# Altium footprint library belton-engineering.PCBLIB: 2 footprints
Each footprint in its own frame and in the unit in brackets; x right, y up, seen from the top. Pads: shape width x height; smd on the part's side, far side on the other; paste and mask are expansions set on the pad; w line width, h text height; cw(c..) or ccw(c..) is an arc to the next point about the centre after c.
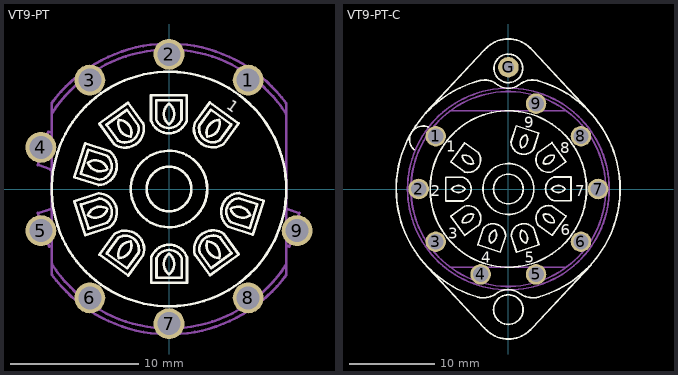
[diagram p0: the footprints below, top view; thin cyan lines are the x and y axes]

## VT9-PT [mm]
pads (9):
  round 2.4 hole 1.8: 1(6.172,8.495) 2(0,10.5) 3(-6.172,8.495) 4(-9.986,3.245) 5(-9.986,-3.245) 6(-6.172,-8.495) 7(0,-10.5) 8(6.172,-8.495) 9(9.986,-3.245)
Top Overlay:
  circle w0.203: c0,0 r9.15
  circle w0.203: c0,0 r1.737
  circle w0.203: c0,0 r2.982
  lines w0.203: -7.399,0.932 -6.542,3.571 -4.639,2.953 cw(c-5.543,1.788) -5.497,0.314 -7.399,0.932 ; -7.391,-0.956 -6.534,-3.595 -4.632,-2.977 ccw(c-5.536,-1.812) -5.489,-0.338 -7.391,-0.956 ; -6.895,1.189 -5.445,0.718 ccw(c-5.544,1.788) -4.834,2.596 -6.285,3.067 -6.895,1.189 ; -6.887,-1.213 -5.437,-0.741 cw(c-5.536,-1.812) -4.827,-2.62 -6.277,-3.091 -6.887,-1.213 ; -6.324,-2.055 ccw(c-5.749,-1.238) -4.803,-1.561 ccw(c-5.378,-2.378) -6.324,-2.055 ; -6.325,2.055 ccw(c-5.379,2.378) -4.803,1.561 ccw(c-5.749,1.238) -6.325,2.055 ; -5.438,5.103 -3.193,6.734 -2.018,5.116 cw(c-3.434,4.705) -4.263,3.485 -5.438,5.103 ; -5.418,-5.118 -3.173,-6.749 -1.997,-5.131 ccw(c-3.413,-4.719) -4.242,-3.5 -5.418,-5.118 ; -4.879,5.015 -3.983,3.781 ccw(c-3.434,4.705) -2.385,4.942 -3.282,6.176 -4.879,5.015 ; -4.859,-5.029 -3.963,-3.796 cw(c-3.414,-4.72) -2.365,-4.956 -3.261,-6.19 -4.859,-5.029 ; -3.909,-5.38 ccw(c-3.923,-4.381) -2.968,-4.086 ccw(c-2.954,-5.085) -3.909,-5.38 ; -3.909,5.38 ccw(c-2.954,5.085) -2.968,4.086 ccw(c-3.923,4.381) -3.909,5.38 ; -1.4,5.325 -1.4,7.325 1.375,7.325 1.375,5.325 cw(c-0.013,5.825) -1.4,5.325 ; -1.375,-7.325 1.4,-7.325 1.4,-5.325 ccw(c0.013,-5.825) -1.375,-5.325 -1.375,-7.325 ; -1,5.4 -1,6.925 0.975,6.925 0.975,5.4 cw(c-0.012,5.825) -1,5.4 ; -0.975,-6.925 -0.975,-5.4 cw(c0.013,-5.825) 1,-5.4 1,-6.925 -0.975,-6.925 ; 0,-6.65 ccw(c-0.599,-5.85) 0,-5.05 ccw(c0.599,-5.85) 0,-6.65 ; 0,5.05 cw(c0.599,5.85) 0,6.65 cw(c-0.599,5.85) 0,5.05 ; 1.997,5.131 3.173,6.749 5.418,5.118 4.242,3.5 cw(c3.413,4.72) 1.997,5.131 ; 2.018,-5.116 3.193,-6.734 5.438,-5.103 4.263,-3.485 ccw(c3.434,-4.705) 2.018,-5.116 ; 2.365,4.956 3.261,6.19 4.859,5.029 3.963,3.796 cw(c3.414,4.72) 2.365,4.956 ; 2.385,-4.942 cw(c3.434,-4.705) 3.983,-3.781 4.879,-5.014 3.281,-6.175 2.385,-4.942 ; 2.968,-4.085 cw(c2.954,-5.085) 3.909,-5.38 cw(c3.923,-4.38) 2.968,-4.085 ; 2.968,4.086 cw(c3.923,4.381) 3.909,5.38 cw(c2.954,5.085) 2.968,4.086 ; 4.639,-2.953 6.541,-3.571 7.399,-0.932 5.497,-0.314 ccw(c5.543,-1.788) 4.639,-2.953 ; 4.803,-1.56 cw(c5.378,-2.378) 6.324,-2.055 cw(c5.749,-1.238) 4.803,-1.56 ; 4.834,-2.596 cw(c5.544,-1.788) 5.444,-0.718 6.895,-1.189 6.284,-3.067 4.834,-2.596
  text "1" at 4.445,6.35 h0.86
Mechanical 16:
  lines w0.203: -9.25,1.525 -10.225,1.875 -9.4,4.475 -9.175,4.4 ; -9.2,-4.425 -9.35,-4.5 -10.225,-1.875 -9.15,-1.525 ; -9.15,-6.675 -9.15,-1.525 ; -9.15,5.875 cw(c-0.013,0.025) 9.125,5.875 ; -9.125,-6.7 ccw(c0.013,-0.012) 9.15,-6.7 9.15,-4.4 ; -9.125,-5.875 ccw(c0.013,-0.025) 9.15,-5.875 ; 9.125,6.7 ccw(c-0.013,0.012) -9.15,6.7 -9.15,-1.525 ; 9.15,6.675 9.15,-1.525 ; 9.15,-4.4 9.15,-1.525 ; 9.15,-4.4 9.375,-4.5 10.175,-1.875 9.15,-1.525

## VT9-PT-C [mm]
pads (10):
  round 2.4 hole 1.8: 1(-8.495,6.172) 2(-10.5,0) 3(-8.495,-6.172) 4(-3.245,-9.986) 5(3.245,-9.986) 6(8.495,-6.172) 7(10.5,0) 8(8.495,6.172) 9(3.245,9.986)
  round 2.4 hole 1.3: G(0,14.25)
Top Overlay:
  circle w0.203: c0,0 r9.15
  circle w0.203: c0,0 r1.737
  circle w0.203: c0,0 r2.982
  circle w0.203: c0,-14.114 r1.728
  circle w0.203: c0,14.114 r1.672
  lines w0.203: -11.017,4.585 cw(c-9.975,5.782) -9.409,7.265 ; -9.707,8.873 -2.799,16.258 cw(c0,13.876) 2.799,16.258 9.409,9.171 ; -9.409,-9.171 -2.799,-16.258 ccw(c0,-13.876) 2.799,-16.258 9.707,-8.873 ; -7.325,-1.4 -7.325,1.375 -5.325,1.375 cw(c-5.825,-0.013) -5.325,-1.4 -7.325,-1.4 ; -6.749,3.173 -5.118,5.418 -3.5,4.242 cw(c-4.72,3.413) -5.131,1.997 -6.749,3.173 ; -6.734,-3.193 -5.103,-5.438 -3.485,-4.263 ccw(c-4.705,-3.434) -5.116,-2.018 -6.734,-3.193 ; -6.65,0 ccw(c-5.85,0.599) -5.05,0 ccw(c-5.85,-0.599) -6.65,0 ; -5.38,-3.909 ccw(c-5.085,-2.954) -4.086,-2.968 ccw(c-4.381,-3.923) -5.38,-3.909 ; -5.38,3.909 ccw(c-4.381,3.923) -4.086,2.968 ccw(c-5.085,2.954) -5.38,3.909 ; -3.633,-12.625 ccw(c-2.919,-10.15) -1.37,-12.208 cw(c-0.03,-13.989) 1.31,-12.208 ccw(c2.859,-10.15) 3.573,-12.625 ccw(c-0.07,0.005) 3.394,12.685 ccw(c2.793,10.482) 1.37,12.267 cw(c0,13.986) -1.37,12.267 ccw(c-2.769,10.511) -3.335,12.685 ccw(c0.006,-0.011) -3.633,-12.625 ; -3.571,-6.542 -0.932,-7.399 -0.314,-5.497 ccw(c-1.788,-5.543) -2.953,-4.639 -3.571,-6.542 ; -2.055,-6.325 ccw(c-2.378,-5.379) -1.561,-4.803 ccw(c-1.238,-5.749) -2.055,-6.325 ; 0.314,5.497 0.932,7.399 3.571,6.541 2.953,4.639 cw(c1.788,5.543) 0.314,5.497 ; 0.338,-5.489 0.956,-7.391 3.595,-6.534 2.977,-4.632 ccw(c1.812,-5.536) 0.338,-5.489 ; 1.561,-4.803 cw(c1.238,-5.749) 2.055,-6.324 cw(c2.378,-5.378) 1.561,-4.803 ; 1.56,4.803 cw(c2.378,5.378) 2.055,6.324 cw(c1.238,5.749) 1.56,4.803 ; 3.485,4.263 5.103,5.438 6.734,3.193 5.116,2.018 cw(c4.705,3.434) 3.485,4.263 ; 3.5,-4.242 5.118,-5.418 6.749,-3.173 5.131,-1.997 ccw(c4.719,-3.413) 3.5,-4.242 ; 4.086,-2.968 cw(c4.381,-3.923) 5.38,-3.909 cw(c5.085,-2.954) 4.086,-2.968 ; 4.085,2.968 cw(c5.085,2.954) 5.38,3.909 cw(c4.38,3.923) 4.085,2.968 ; 5.05,0 cw(c5.85,-0.599) 6.65,0 cw(c5.85,0.599) 5.05,0 ; 5.325,-1.375 7.325,-1.375 7.325,1.4 5.325,1.4 ccw(c5.825,0.013) 5.325,-1.375
  text "1" at -7.265,4.347 h1.28
  text "2" at -9.052,-0.834 h1.28
  text "3" at -7.027,-5.836 h1.28
  text "4" at -3.156,-8.635 h1.28
  text "5" at 1.906,-8.635 h1.28
  text "6" at 6.134,-5.419 h1.28
  text "7" at 7.801,-0.834 h1.28
  text "8" at 6.074,4.169 h1.28
  text "9" at 1.846,7.146 h1.28
Mechanical 16:
  circle w0.203: c0,0 r11.4
  circle w0.203: c0,0 r11.8
  lines w0.203: -6.729,-9.171 -0.06,-9.171 6.729,-9.171 ; -6.729,9.171 0.06,9.171 6.729,9.171